# EAGLE library part DF62J12S2AHQA (library DF62J12S2AHQA)
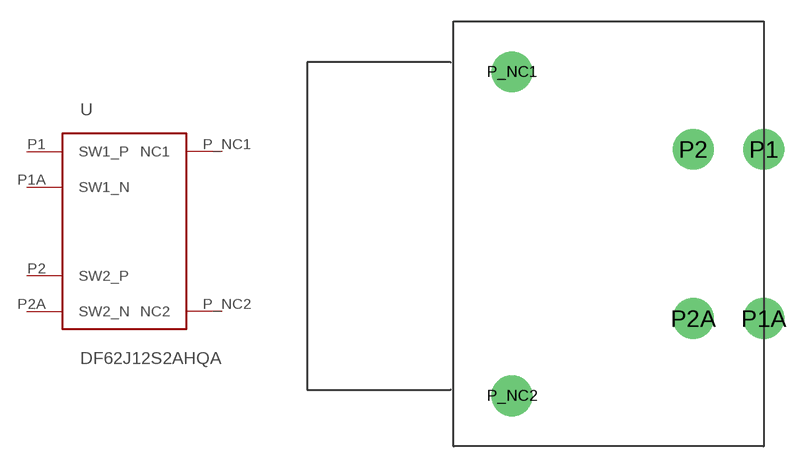
[diagram p0: symbol with the pads of DF62J12S2AHQA; footprint DF62J12S2AHQA]

Designator prefix -

## DF62J12S2AHQA  [DF62J12S2AHQA]
P1  SW1_P
P1A  SW1_N
P2  SW2_P
P2A  SW2_N
P_NC1  NC1
P_NC2  NC2

## Footprint DF62J12S2AHQA (pad centres in mm)
drill 1.91: P1 0,11.89; P1A 0,0; P2 -4.95,11.89; P2A -4.95,0; P_NC1 -17.68,17.325; P_NC2 -17.68,-5.435